# Altium footprint library V_15.PcbLib: 4 footprints
Each footprint in its own frame and in the unit in brackets; x right, y up, seen from the top. Pads: shape width x height; smd on the part's side, far side on the other; paste and mask are expansions set on the pad; w line width, h text height; cw(c..) or ccw(c..) is an arc to the next point about the centre after c.
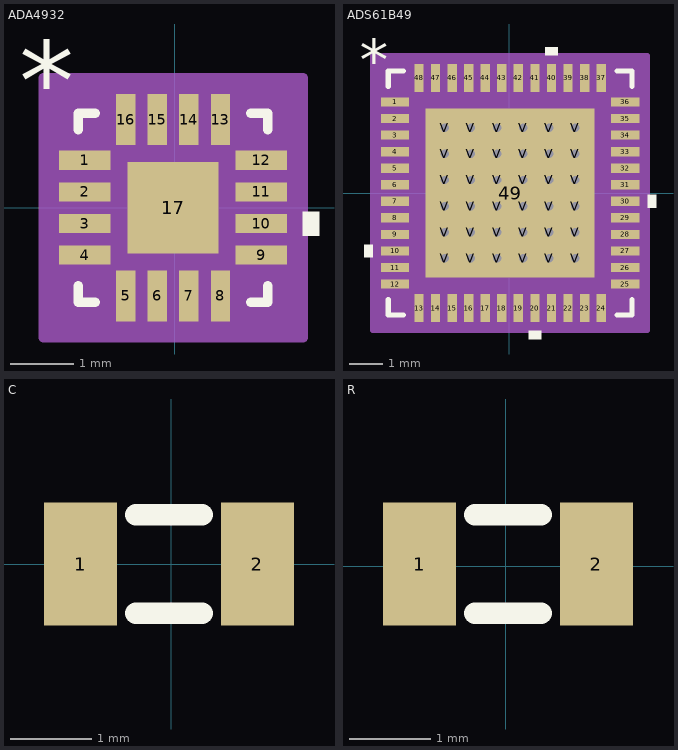
[diagram p0: the footprints below, top view; thin cyan lines are the x and y axes]

## ADA4932 [mil]
pads (17):
  rect 32x12 smd mask+5: 1(-56,29.53) 2(-56,9.84) 3(-56,-9.84) 4(-56,-29.53) 9(54,-29.53) 10(54,-9.84) 11(54,9.84) 12(54,29.53)
  rect 12x32 smd mask+5: 5(-30.53,-55) 6(-10.84,-55) 7(8.84,-55) 8(28.53,-55) 13(28.53,55) 14(8.84,55) 15(-10.84,55) 16(-30.53,55)
  rect 57x57 smd mask-28: 17(-1,0)
Top Overlay:
  region: 80,-2.34 90,-2.34 90,-17.34 80,-17.34
  lines w6: -60,-48.63 -60,-59 -49.63,-59 ; -60,48.63 -60,59 -49.63,59 ; 47.63,-59 58,-59 58,-48.63 ; 47.63,59 58,59 58,48.63
  text "*" at -97,54.37 h50
Mechanical 13:
  text "*" at -97,54.37 h50
Mechanical 15:
  region: 80,-81 -82,-81 -82,81 80,81
  lines w6: -82,-81 80,-81 80,81 -82,81 -82,-81
3D body "CP_16_2.stp": height 0, standoff 0, extent -1,0 -1,0

## ADS61B49 [mil]
pads (85):
  rect 33.46x11.02 smd paste-5.51: 1(-135.81,108.27) 2(-135.81,88.58) 3(-135.81,68.9) 4(-135.81,49.21) 5(-135.81,29.53) 6(-135.81,9.84) 7(-135.81,-9.84) 8(-135.81,-29.53) 9(-135.81,-49.21) 10(-135.81,-68.9) 11(-135.81,-88.58) 12(-135.81,-108.27) 25(137.81,-108.27) 26(137.81,-88.58) 27(137.81,-68.9) 28(137.81,-49.21) 29(137.81,-29.53) 30(137.81,-9.84) 31(137.81,9.84) 32(137.81,29.53) 33(137.81,49.21) 34(137.81,68.9) 35(137.81,88.58) 36(137.81,108.27)
  rect 11.02x33.46 smd paste-5.51: 13(-107.3,-136.81) 14(-87.61,-136.81) 15(-67.92,-136.81) 16(-48.23,-136.81) 17(-28.54,-136.81) 18(-8.85,-136.81) 19(10.85,-136.81) 20(30.54,-136.81) 21(50.23,-136.81) 22(69.92,-136.81) 23(89.61,-136.81) 24(109.3,-136.81) 37(109.3,136.81) 38(89.61,136.81) 39(69.92,136.81) 40(50.23,136.81) 41(30.54,136.81) 42(10.85,136.81) 43(-8.85,136.81) 44(-28.54,136.81) 45(-48.23,136.81) 46(-67.92,136.81) 47(-87.61,136.81) 48(-107.3,136.81)
  rect 200.79x200.79 smd paste-99.89 mask-100: 49(1,0)
  round 20 / inner round 60 / far side round 20 hole 10: V(-76.5,-77.5) V(-76.5,-46.5) V(-76.5,-15.5) V(-76.5,15.5) V(-76.5,46.5) V(-76.5,77.5) V(-45.5,-77.5) V(-45.5,-46.5) V(-45.5,-15.5) V(-45.5,15.5) V(-45.5,46.5) V(-45.5,77.5) V(-14.5,-77.5) V(-14.5,-46.5) V(-14.5,-15.5) V(-14.5,15.5) V(-14.5,46.5) V(-14.5,77.5) V(16.5,-77.5) V(16.5,-46.5) V(16.5,-15.5) V(16.5,15.5) V(16.5,46.5) V(16.5,77.5) V(47.5,-77.5) V(47.5,-46.5) V(47.5,-15.5) V(47.5,15.5) V(47.5,46.5) V(47.5,77.5) V(78.5,-77.5) V(78.5,-46.5) V(78.5,-15.5) V(78.5,15.5) V(78.5,46.5) V(78.5,77.5)
Top Overlay:
  region: -162.54,-61.4 -172.54,-61.4 -172.54,-76.4 -162.54,-76.4
  region: 38.03,-163.54 23.04,-163.54 23.04,-173.54 38.03,-173.54
  region: 164.54,-2.34 174.54,-2.34 174.54,-17.34 164.54,-17.34
  region: 57.73,163.54 42.73,163.54 42.73,173.54 57.73,173.54
  lines w6: -143.84,-126.88 -143.84,-144.84 -125.91,-144.84 ; -143.84,126.88 -143.84,144.84 -125.91,144.84 ; 127.91,-144.84 145.84,-144.84 145.84,-126.88 ; 127.91,144.84 145.84,144.84 145.84,126.88
  text "*" at -177.54,133.11 h50
Top Paste:
  drawing of 97 lines, arcs and shapes, not listed
Top Solder:
  drawing of 62 lines, arcs and shapes, not listed
Mechanical 13:
  text "*" at -177.54,133.11 h50
Mechanical 15:
  region: 164.54,-163.54 -162.54,-163.54 -162.54,163.54 164.54,163.54
  lines w6: -162.54,-163.54 -162.54,163.54 164.54,163.54 164.54,-163.54 -162.54,-163.54
3D body "RTC48_5P1X5P1.stp": height 0, standoff 0, extent 1,0 1,0

## C [mil]
pads (2):
  rect 35.43x60 smd: 1(-44,0) 2(42,0)
Top Overlay:
  lines w10.63: -17,-24 15,-24 ; -17,24 15,24

## R [mil]
pads (2):
  rect 35.43x60 smd: 1(-42,1) 2(44,1)
Top Overlay:
  lines w10.63: -15,-23 17,-23 ; -15,25 17,25